# Altium schematic symbol library RLF7030T-2R2M5R4.Schlib: 1 symbol
Pins are listed as number, name and electrical type; pins without a type are passive.

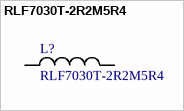
[diagram p0: symbol RLF7030T-2R2M5R4]

## RLF7030T-2R2M5R4
designator L?
Inductor
pins: 1, 2